# Altium schematic symbol library PS7801.SchLib: 1 symbol
Pins are listed as number, name and electrical type; pins without a type are passive.

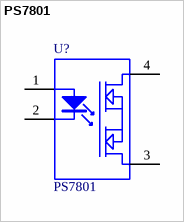
[diagram p0: symbol PS7801]

## PS7801
designator U?
Solid State Relay
pins: 1, 2, 3, 4
3 alternate drawings of the same symbol